# Altium footprint library HydrogreenPcbLibrary.PcbLib: 34 footprints (part 1 of 3)
Each footprint in its own frame and in the unit in brackets; x right, y up, seen from the top. Pads: shape width x height; smd on the part's side, far side on the other; paste and mask are expansions set on the pad; w line width, h text height; cw(c..) or ccw(c..) is an arc to the next point about the centre after c.
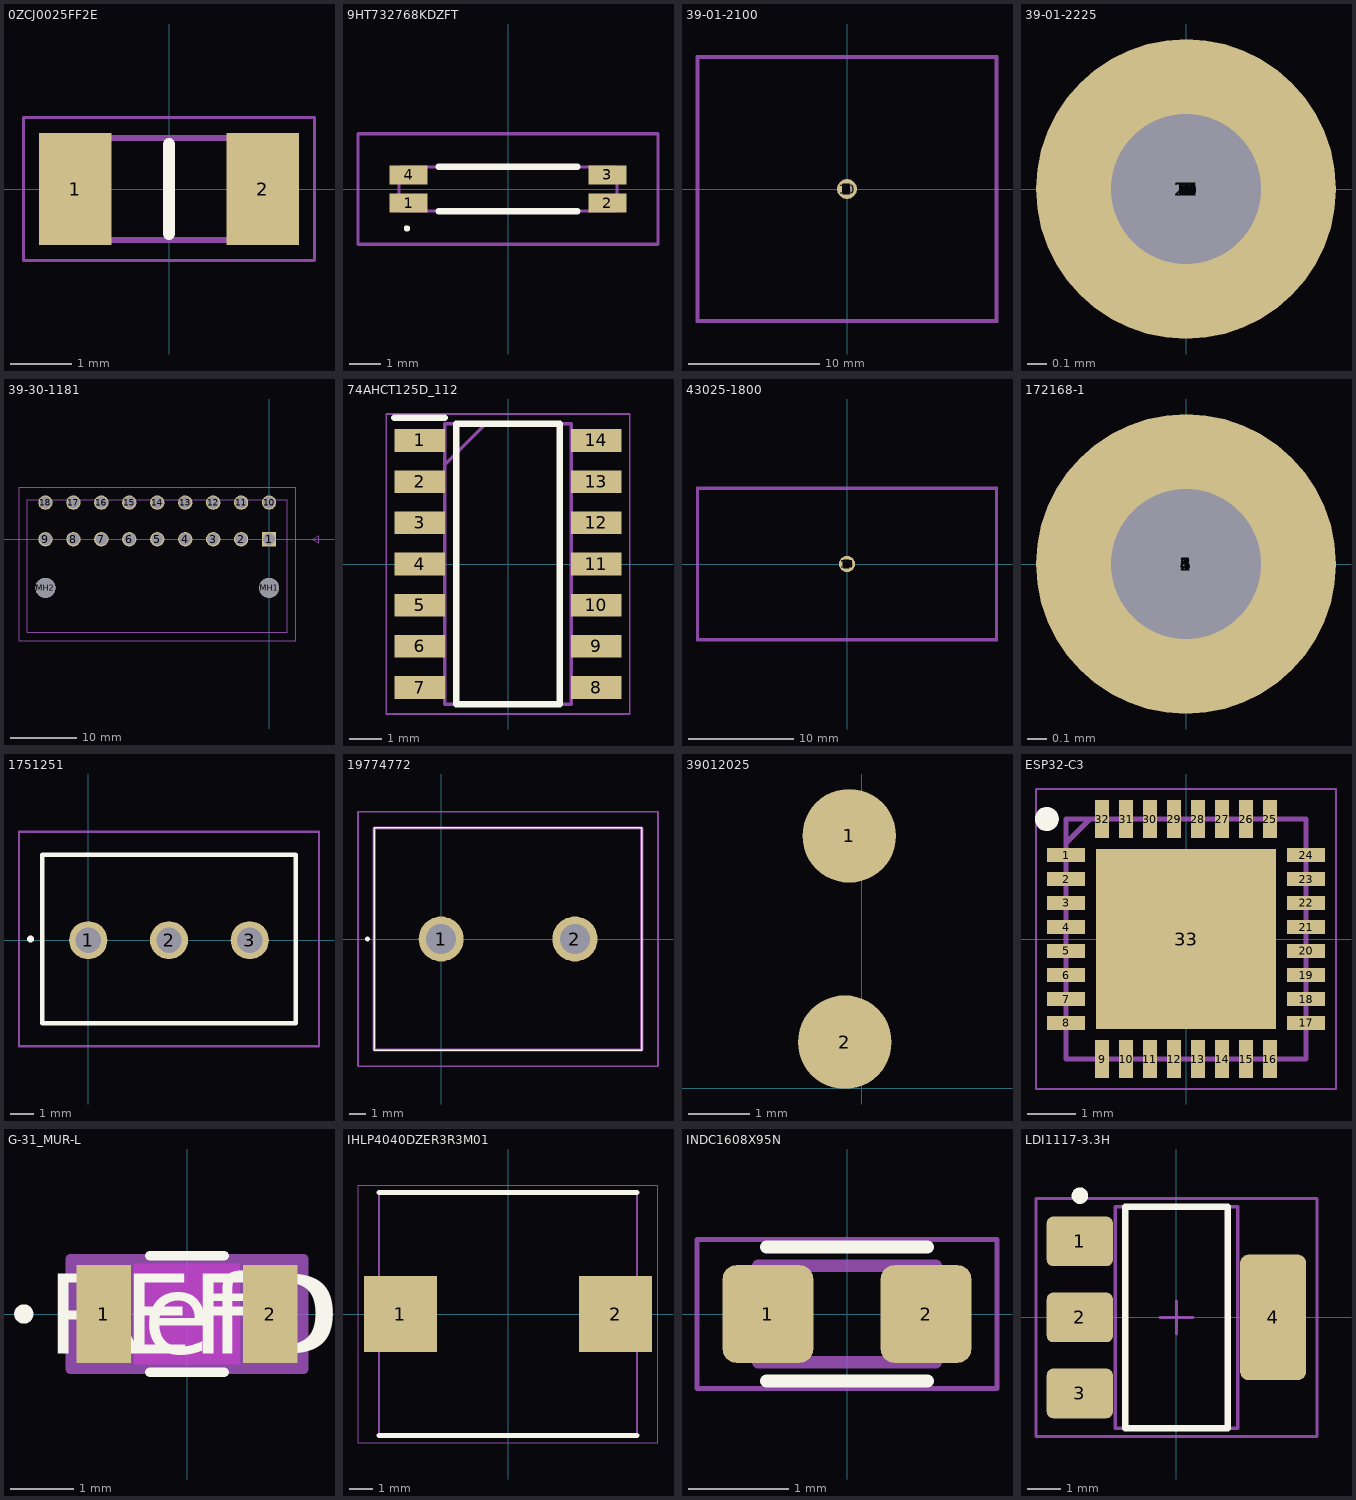
[diagram p0: the footprints below, top view; thin cyan lines are the x and y axes]

## 0ZCJ0025FF2E [mm]
pads (2):
  rect 1.17x1.82 smd: 1(-1.52,0) 2(1.52,0)
Top Overlay:
  lines w0.2: 0,-0.725 0,0.725
Top Courtyard:
  lines w0.1: -1.625,-0.825 1.625,-0.825 1.625,0.825 -1.625,0.825 -1.625,-0.825
Bottom Assembly (Mech20):
  lines w0.05: -2.355,-1.16 2.355,-1.16 2.355,1.16 -2.355,1.16 -2.355,-1.16
3D body "0ZCJ0025FF2E.stp": height 0.3, standoff -0.3, extent -1.675,-0.825 1.675,0.825

## 9HT732768KDZFT [mm]
pads (4):
  rect 1.2x0.6 smd: 1(-3.15,-0.45) 2(3.15,-0.45) 3(3.15,0.45) 4(-3.15,0.45)
Top Overlay:
  lines w0.1: -3.2,-1.3 ccw(c-3.2,-1.25) -3.2,-1.2 ccw(c-3.2,-1.25) -3.2,-1.3
  lines w0.2: -2.2,-0.7 2.2,-0.7 ; -2.2,0.7 2.2,0.7
Top Courtyard:
  lines w0.1: -3.45,-0.7 -3.45,0.7 3.45,0.7 3.45,-0.7 -3.45,-0.7
Bottom Assembly (Mech20):
  lines w0.1: -4.75,-1.75 -4.75,1.75 4.75,1.75 4.75,-1.75 -4.75,-1.75
3D body "9HT7-32.768KDZF-T.stp": height 1.25, standoff -0.05, extent -3.45,-0.707 3.45,0.693

## 39-01-2100 [mil]
pads (10):
  round 60 hole 30: 1(0,0) 2(0,0) 3(0,0) 4(0,0) 5(0,0) 6(0,0) 7(0,0) 8(0,0) 9(0,0) 10(0,0)
Top Assembly:
  lines w7.87: -448.82,-397.24 448.82,-397.24 448.82,397.24 -448.82,397.24 -448.82,-397.24
Top 3D Body:
  lines w7.87: -444.88,-393.31 444.88,-393.31 444.88,393.31 -444.88,393.31 -444.88,-393.31
Top Courtyard:
  lines w7.87: -448.82,-397.24 448.82,-397.24 448.82,397.24 -448.82,397.24 -448.82,-397.24
Top Component Center:
  lines w3.94: -19.68,0 19.68,0 ; 0,-19.68 0,19.68
3D body "Conn_Molex_39-01-2100_eec.STEP": height 10, standoff 0, extent -448.82,-397.24 448.82,397.24

## 39-01-2225 [mil]
pads (22):
  round 60 hole 30: 1(0,0) 2(0,0) 3(0,0) 4(0,0) 5(0,0) 6(0,0) 7(0,0) 8(0,0) 9(0,0) 10(0,0) 11(0,0) 12(0,0) 13(0,0) 14(0,0) 15(0,0) 16(0,0) 17(0,0) 18(0,0) 19(0,0) 20(0,0) 21(0,0) 22(0,0)
3D body "39-01-2225.stp": height 350.39, standoff -421.26, extent -933.07,-338.58 933.07,228.35

## 39-30-1181 [mm]
pads (20):
  rect 2.15x2.15 / inner round 1.986 / far side rect 2.15x2.15 hole 1.8: 1(0,0)
  round 2.15 hole 1.8: 2(-4.2,0) 3(-8.4,0) 4(-12.6,0) 5(-16.8,0) 6(-21,0) 7(-25.2,0) 8(-29.4,0) 9(-33.6,0) 10(0,5.5) 11(-4.2,5.5) 12(-8.4,5.5) 13(-12.6,5.5) 14(-16.8,5.5) 15(-21,5.5) 16(-25.2,5.5) 17(-29.4,5.5) 18(-33.6,5.5)
  round 3 hole 3 unplated: MH1(0,-7.3) MH2(-33.6,-7.3)
Board Outline:
  lines w0.05: -37.57,-15.238 -37.57,7.794 3.97,7.794 3.97,-15.238 -37.57,-15.238
  lines w0.127: -36.3,-13.968 -36.3,5.968 2.7,5.968 2.7,-13.968 -36.3,-13.968 ; 6.5,0 7.5,0.5 7.5,-0.5 6.5,0
Mechanical 7:
  lines w0.127: -36.3,5.968 -36.3,-13.968 2.7,-13.968 2.7,5.968 ; 6.5,0 7.5,0.5 7.5,-0.5 6.5,0
3D body "39-30-1181.stp": height 11.4, standoff -3.6, extent -36.298,-13.818 3.099,6.117

## 74AHCT125D_112 [mm]
pads (14):
  rect 1.55x0.7 smd: 1(-2.725,3.81) 2(-2.725,2.54) 3(-2.725,1.27) 4(-2.725,0) 5(-2.725,-1.27) 6(-2.725,-2.54) 7(-2.725,-3.81) 8(2.725,-3.81) 9(2.725,-2.54) 10(2.725,-1.27) 11(2.725,0) 12(2.725,1.27) 13(2.725,2.54) 14(2.725,3.81)
Top Overlay:
  lines w0.2: -3.5,4.51 -1.95,4.51 ; -1.6,-4.325 -1.6,4.325 1.6,4.325 1.6,-4.325 -1.6,-4.325
Top Courtyard:
  lines w0.1: -1.95,3.055 -0.68,4.325 ; -1.95,-4.325 -1.95,4.325 1.95,4.325 1.95,-4.325 -1.95,-4.325
Bottom Assembly (Mech20):
  lines w0.05: -3.75,-4.625 -3.75,4.625 3.75,4.625 3.75,-4.625 -3.75,-4.625

## 43025-1800 [mil]
pads (18):
  round 60 hole 30: 1(0,0) 2(0,0) 3(0,0) 4(0,0) 5(0,0) 6(0,0) 7(0,0) 8(0,0) 9(0,0) 10(0,0) 11(0,0) 12(0,0) 13(0,0) 14(0,0) 15(0,0) 16(0,0) 17(0,0) 18(0,0)
Top Assembly:
  lines w7.87: -559.06,-284.45 -559.06,284.45 559.06,284.45 559.06,-284.45 -559.06,-284.45
Top 3D Body:
  lines w7.87: -555.12,-280.51 -555.12,280.51 555.12,280.51 555.12,-280.51 -555.12,-280.51
Top Courtyard:
  lines w7.87: -559.06,-284.45 -559.06,284.45 559.06,284.45 559.06,-284.45 -559.06,-284.45
Top Component Center:
  lines w3.94: -19.68,0 19.68,0 ; 0,-19.68 0,19.68
3D body "Conn_Molex_43025-1800_eec.STEP": height 10, standoff 0, extent -559.06,-284.45 559.06,284.45

## 172168-1 [mil]
pads (6):
  round 60 hole 30: 1(0,0) 2(0,0) 3(0,0) 4(0,0) 5(0,0) 6(0,0)
3D body "172168-1.stp": height 1000, standoff 66.93, extent -275.59,-346.46 295.2,232.28

## 1751251 [mm]
pads (3):
  round 1.65 hole 1.1: 1(0,0) 2(3.5,0) 3(7,0)
Top Overlay:
  lines w0.2: -2.5,0 ccw(c-2.5,0.05) -2.5,0.1 ccw(c-2.5,0.05) -2.5,0 ; -2,-3.6 9,-3.6 9,3.7 -2,3.7 -2,-3.6
Top Courtyard:
  lines w0.1: -2,-3.6 9,-3.6 9,3.7 -2,3.7 -2,-3.6
Bottom Assembly (Mech20):
  lines w0.1: -3,-4.6 10,-4.6 10,4.7 -3,4.7 -3,-4.6
3D body "1751251.stp": height 8.5, standoff -3.5, extent -1.944,-3.683 9.056,3.617

## 19774772 [mm]
pads (2):
  round 2.775 hole 1.85: 1(0,0) 2(8.25,0)
Top Overlay:
  lines w0.1: -4.13,-6.85 -4.13,6.85 12.37,6.85 12.37,-6.85 -4.13,-6.85
  lines w0.2: -4.6,0 ccw(c-4.55,0) -4.5,0 ; -4.6,0 cw(c-4.55,0) -4.5,0 ; -4.6,0 ccw(c-4.55,0) -4.5,0
Top Courtyard:
  lines w0.2: -4.13,-6.85 -4.13,6.85 12.37,6.85 12.37,-6.85 -4.13,-6.85
Bottom Assembly (Mech20):
  lines w0.1: -5.13,-7.85 -5.13,7.85 13.37,7.85 13.37,-7.85 -5.13,-7.85
3D body "1977477-2.stp": height 14.83, standoff -4.96, extent -5.025,-6.85 12.425,6.85

## 39012025 [mil]
pads (2):
  round 60 all layers, no hole: 1(-7.9,161.73) 2(-10.71,29.58)
3D body "39012025.stp": height 350.39, standoff -421.26, extent -126.08,-229.78 86.51,337.14

## ESP32-C3 [mm]
pads (33):
  rect 0.8x0.3 smd: 1(-2.5,1.75) 2(-2.5,1.25) 3(-2.5,0.75) 4(-2.5,0.25) 5(-2.5,-0.25) 6(-2.5,-0.75) 7(-2.5,-1.25) 8(-2.5,-1.75) 17(2.5,-1.75) 18(2.5,-1.25) 19(2.5,-0.75) 20(2.5,-0.25) 21(2.5,0.25) 22(2.5,0.75) 23(2.5,1.25) 24(2.5,1.75)
  rect 0.3x0.8 smd: 9(-1.75,-2.5) 10(-1.25,-2.5) 11(-0.75,-2.5) 12(-0.25,-2.5) 13(0.25,-2.5) 14(0.75,-2.5) 15(1.25,-2.5) 16(1.75,-2.5) 25(1.75,2.5) 26(1.25,2.5) 27(0.75,2.5) 28(0.25,2.5) 29(-0.25,2.5) 30(-0.75,2.5) 31(-1.25,2.5) 32(-1.75,2.5)
  rect 3.75x3.75 smd: 33(0,0)
Top Overlay:
  circle w0.25: c-2.9,2.5 r0.125
Top Courtyard:
  lines w0.1: -2.5,2 -2,2.5 ; -2.5,-2.5 -2.5,2.5 2.5,2.5 2.5,-2.5 -2.5,-2.5
Bottom Assembly (Mech20):
  lines w0.05: -3.125,-3.125 -3.125,3.125 3.125,3.125 3.125,-3.125 -3.125,-3.125
3D body "ESP32-C3.stp": height 0.9, standoff 0, extent -2.55,-2.55 2.55,2.55

## G-31_MUR-L [mil]
pads (2):
  rect 34x61 smd paste+0 mask+0: 1(-52,0) 2(52,0)
Top Layer keep-out:
  region: -33,-29.5 -33,29.5 33,29.5 33,-29.5
Top Overlay:
  circle w6: c-102,0 r3
  lines w6: -23.35,-36.5 23.35,-36.5 ; -23.35,36.5 23.35,36.5
  text "RefDes" at -75,-25 h50
  text "REFDES" at -87.5,-25 h50
Keep-Out Layer:
  region: -33,-31.5 -33,31.5 33,31.5 33,-31.5
Top 3D Body:
  circle w0: c-47,0 r3
  lines w1: -63,-31.5 -63,31.5 ; -63,-31.5 -35,-31.5 -35,31.5 -63,31.5 ; -63,-31.5 63,-31.5 ; -63,-31.5 -63,31.5 ; -63,31.5 63,31.5 ; 63,-31.5 35,-31.5 35,31.5 63,31.5 ; 63,-31.5 63,31.5 ; 63,-31.5 63,31.5
  text "RefDes2" at -87.5,-25 h50
Top Courtyard:
  region: 73,-34.5 -73,-34.5 -73,34.5 73,34.5
  lines w6: -73,-34.5 -73,34.5 73,34.5 73,-34.5 -73,-34.5
3D body "G-31_MUR.step": height 79.02, standoff 0, extent -62.99,-31.5 62.99,31.5

## IHLP4040DZER3R3M01 [mm]
pads (2):
  rect 3.05x3.2 smd: 1(-4.5,0) 2(4.5,0)
Top Overlay:
  lines w0.2: -5.398,-5.08 5.398,-5.08 ; -5.398,5.08 5.398,5.08
Top Courtyard:
  lines w0.1: -5.398,-5.08 -5.398,5.08 5.398,5.08 5.398,-5.08 -5.398,-5.08
Bottom Assembly (Mech20):
  lines w0.05: -6.275,-5.394 -6.275,5.394 6.275,5.394 6.275,-5.394 -6.275,-5.394

## INDC1608X95N [mm]
pads (2):
  rrect30% 0.9x0.97 smd: 1(-0.785,0) 2(0.785,0)
Top Overlay:
  lines w0.127: -0.8,-0.665 0.8,-0.665 ; -0.8,0.665 0.8,0.665
Top 3D Body:
  lines w0.127: -0.88,-0.48 -0.88,0.48 0.88,0.48 0.88,-0.48 -0.88,-0.48
Top Courtyard:
  lines w0.05: -1.49,-0.74 1.49,-0.74 1.49,0.74 -1.49,0.74 -1.49,-0.74
3D body "step_temp.STEP": height 0.95, standoff 0, extent -0.8,-0.4 0.8,0.4

## LDI1117-3.3H [mm] "LDI1117-3.3H, 4-Leads"
height 1.65
pads (4):
  rrect25% 2x1.5 smd: 1(-2.925,2.3) 2(-2.925,0) 3(-2.925,-2.3)
  rrect25% 2x3.8 smd: 4(2.925,0)
Top Overlay:
  circle w0.25: c-2.921,3.683 r0.125
  lines w0.2: -1.55,-3.35 -1.55,3.35 1.55,3.35 1.55,-3.35 -1.55,-3.35
Mechanical 12:
  lines w0.1: -1.85,-3.35 -1.85,3.35 1.85,3.35 1.85,-3.35 -1.85,-3.35
Top Courtyard:
  lines w0.1: -0.5,0 0.5,0 ; 0,-0.5 0,0.5 ; -4.25,-3.6 -4.25,3.6 4.25,3.6 4.25,-3.6 -4.25,-3.6
3D body "p205_SOT-223.stp": height 1.64, standoff -0.01, extent -3.44,-3.263 3.56,3.237